# EAGLE library part TI-HDMI-TPD12S521 (library duraTerm)
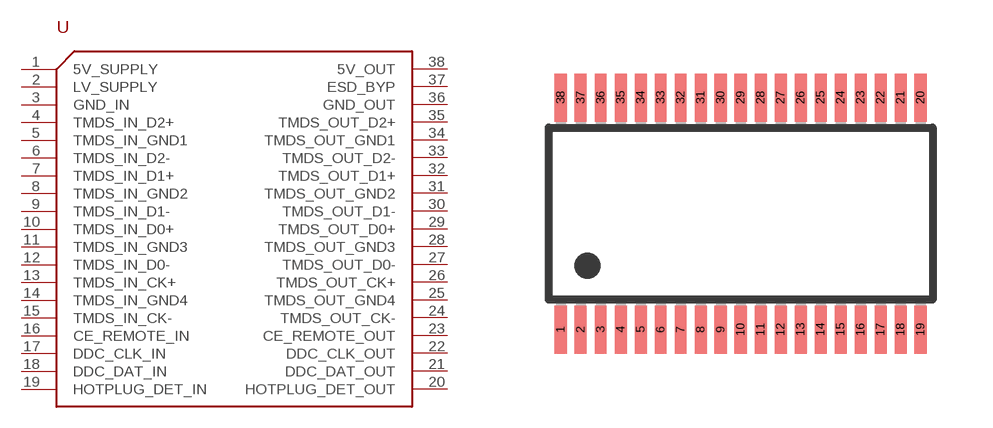
[diagram p2: symbol with the pads of DBT_R-PDSO-G38; footprint DBT_R-PDSO-G38]

Designator prefix U

## TI-HDMI-TPD12S521  [DBT_R-PDSO-G38]
1  5V_SUPPLY
2  LV_SUPPLY
3  GND_IN
4  TMDS_IN_D2+
5  TMDS_IN_GND1
6  TMDS_IN_D2-
7  TMDS_IN_D1+
8  TMDS_IN_GND2
9  TMDS_IN_D1-
10  TMDS_IN_D0+
11  TMDS_IN_GND3
12  TMDS_IN_D0-
13  TMDS_IN_CK+
14  TMDS_IN_GND4
15  TMDS_IN_CK-
16  CE_REMOTE_IN
17  DDC_CLK_IN
18  DDC_DAT_IN
19  HOTPLUG_DET_IN
20  HOTPLUG_DET_OUT
21  DDC_DAT_OUT
22  DDC_CLK_OUT
23  CE_REMOTE_OUT
24  TMDS_OUT_CK-
25  TMDS_OUT_GND4
26  TMDS_OUT_CK+
27  TMDS_OUT_D0-
28  TMDS_OUT_GND3
29  TMDS_OUT_D0+
30  TMDS_OUT_D1-
31  TMDS_OUT_GND2
32  TMDS_OUT_D1+
33  TMDS_OUT_D2-
34  TMDS_OUT_GND1
35  TMDS_OUT_D2+
36  GND_OUT
37  ESD_BYP
38  5V_OUT

## Footprint DBT_R-PDSO-G38 (pad centres in mm)
DBT (R-PSDO-G38) Source: http://focus.ti.com/lit/ml/mpds019g/mpds019g.pdf
smd 0.3 x 1.2: 1 -4.5,-2.9; 2 -4,-2.9; 3 -3.5,-2.9; 4 -3,-2.9; 5 -2.5,-2.9; 6 -2,-2.9; 7 -1.5,-2.9; 8 -1,-2.9; 9 -0.5,-2.9; 10 0,-2.9; 11 0.5,-2.9; 12 1,-2.9; 13 1.5,-2.9; 14 2,-2.9; 15 2.5,-2.9; 16 3,-2.9; 17 3.5,-2.9; 18 4,-2.9; 19 4.5,-2.9; 20 4.5,2.9; 21 4,2.9; 22 3.5,2.9; 23 3,2.9; 24 2.5,2.9; 25 2,2.9; 26 1.5,2.9; 27 1,2.9; 28 0.5,2.9; 29 0,2.9; 30 -0.5,2.9; 31 -1,2.9; 32 -1.5,2.9; 33 -2,2.9; 34 -2.5,2.9; 35 -3,2.9; 36 -3.5,2.9; 37 -4,2.9; 38 -4.5,2.9